# EAGLE library part CPC-CART-EDGE (library 8Bit_Parts)
CPC+ Cartridge Edge
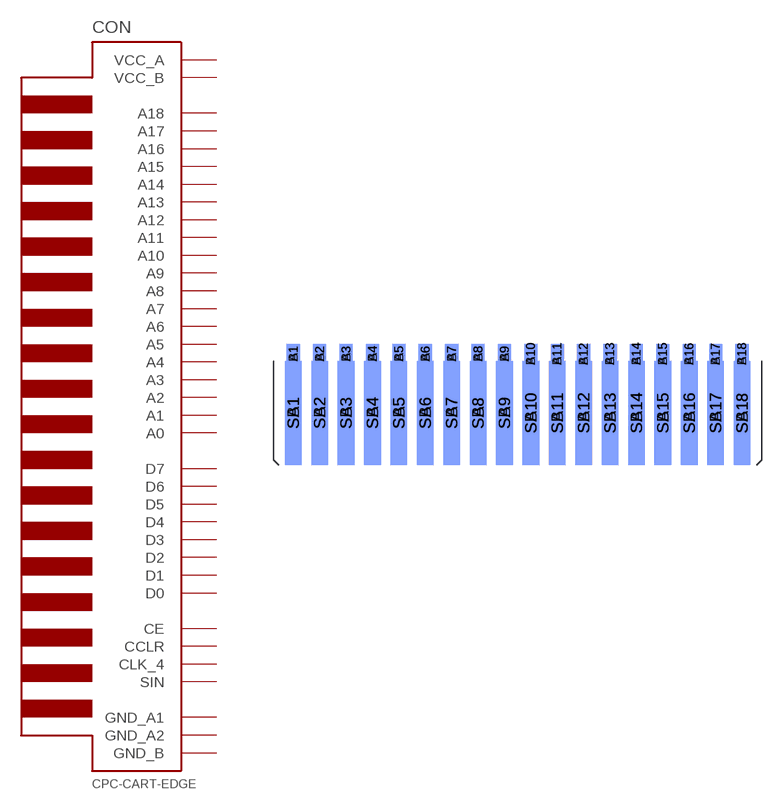
[diagram p1: symbol with the pads of 2X18_EDGE_2.54; footprint 2X18_EDGE_2.54]

Designator prefix CON

## CPC-CART-EDGE  [2X18_EDGE_2.54]
A1  GND_A1
A2  GND_A2
A3  SIN
A4  D2
A5  D1
A6  D0
A7  A0
A8  A1
A9  A2
A10  A3
A11  A11
A12  A9
A13  A8
A14  A13
A15  A14
A16  A17
A17  A18
A18  VCC_A
B1  GND_B
B2  CCLR
B3  D3
B4  D4
B5  D5
B6  D6
B7  D7
B8  CE
B9  A10
B10  A4
B11  A5
B12  A6
B13  A7
B14  A12
B15  A15
B16  A16
B17  CLK_4
B18  VCC_B

## Footprint 2X18_EDGE_2.54 (pad centres in mm)
smd 1.27 x 1.905 bottom: A1 -21.59,5.715; A2 -19.05,5.715; A3 -16.51,5.715; A4 -13.97,5.715; A5 -11.43,5.715; A6 -8.89,5.715; A7 -6.35,5.715; A8 -3.81,5.715; A9 -1.27,5.715; A10 1.27,5.715; A11 3.81,5.715; A12 6.35,5.715; A13 8.89,5.715; A14 11.43,5.715; A15 13.97,5.715; A16 16.51,5.715; A17 19.05,5.715; A18 21.59,5.715
smd 1.27 x 1.905: B1 -21.59,5.715; B2 -19.05,5.715; B3 -16.51,5.715; B4 -13.97,5.715; B5 -11.43,5.715; B6 -8.89,5.715; B7 -6.35,5.715; B8 -3.81,5.715; B9 -1.27,5.715; B10 1.27,5.715; B11 3.81,5.715; B12 6.35,5.715; B13 8.89,5.715; B14 11.43,5.715; B15 13.97,5.715; B16 16.51,5.715; B17 19.05,5.715; B18 21.59,5.715
smd 1.6 x 10 bottom: SA1 -21.59,0; SA2 -19.05,0; SA3 -16.51,0; SA4 -13.97,0; SA5 -11.43,0; SA6 -8.89,0; SA7 -6.35,0; SA8 -3.81,0; SA9 -1.27,0; SA10 1.27,0; SA11 3.81,0; SA12 6.35,0; SA13 8.89,0; SA14 11.43,0; SA15 13.97,0; SA16 16.51,0; SA17 19.05,0; SA18 21.59,0
smd 1.6 x 10: SB1 -21.59,0; SB2 -19.05,0; SB3 -16.51,0; SB4 -13.97,0; SB5 -11.43,0; SB6 -8.89,0; SB7 -6.35,0; SB8 -3.81,0; SB9 -1.27,0; SB10 1.27,0; SB11 3.81,0; SB12 6.35,0; SB13 8.89,0; SB14 11.43,0; SB15 13.97,0; SB16 16.51,0; SB17 19.05,0; SB18 21.59,0